# EAGLE library part EVQ-Q3 (library Switch)
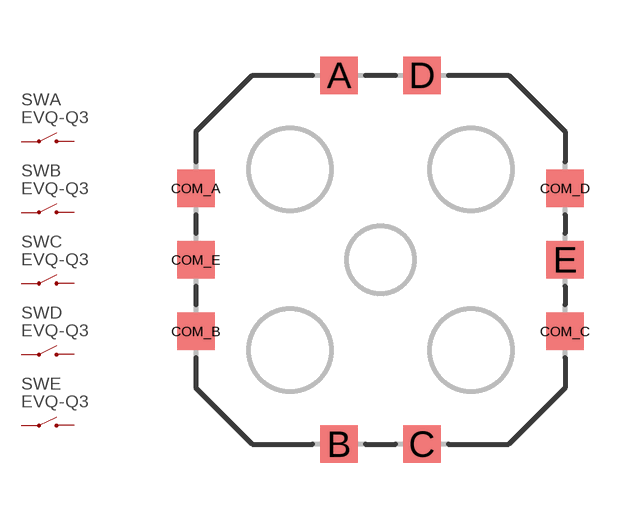
[diagram p2: symbol with the pads of EVQ-Q3; footprint EVQ-Q3]

Designator prefix SW; gates A=SWITCH2P B=SWITCH2P C=SWITCH2P D=SWITCH2P E=SWITCH2P

## EVQ-Q3  [EVQ-Q3]
A  A:A  pas
B  B:A  pas
C  C:A  pas
COM_A  A:B  pas
COM_B  B:B  pas
COM_C  C:B  pas
COM_D  D:B  pas
COM_E  E:B  pas
D  D:A  pas
E  E:A  pas

## Footprint EVQ-Q3 (pad centres in mm)
smd 1 x 1: A -1.1,4.9; B -1.1,-4.9; C 1.1,-4.9; COM_A -4.9,1.9; COM_B -4.9,-1.9; COM_C 4.9,-1.9; COM_D 4.9,1.9; COM_E -4.9,0; D 1.1,4.9; E 4.9,0